# EAGLE library part SBH41-NBPB-D09-ST (library con-sullins)
HEADER
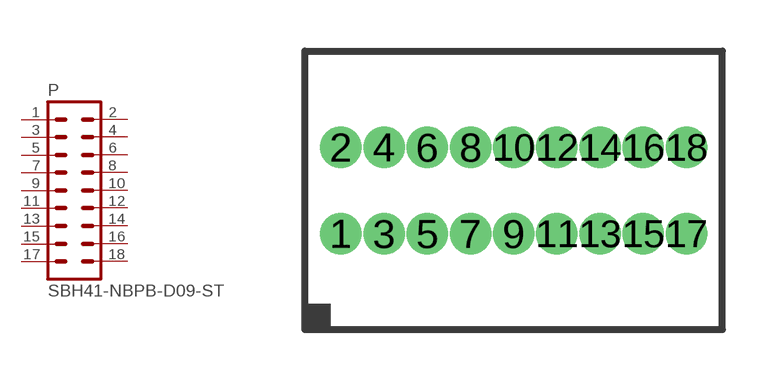
[diagram p62: symbol with the pads of SBH41-NBPB-D09-ST; footprint SBH41-NBPB-D09-ST]

Designator prefix P

## SBH41-NBPB-D09-ST  [SBH41-NBPB-D09-ST]
1  1  pas
2  2  pas
3  3  pas
4  4  pas
5  5  pas
6  6  pas
7  7  pas
8  8  pas
9  9  pas
10  10  pas
11  11  pas
12  12  pas
13  13  pas
14  14  pas
15  15  pas
16  16  pas
17  17  pas
18  18  pas

## Footprint SBH41-NBPB-D09-ST (pad centres in mm)
HEADER
drill 0.711: 1 -5.08,-1.27; 2 -5.08,1.27; 3 -3.81,-1.27; 4 -3.81,1.27; 5 -2.54,-1.27; 6 -2.54,1.27; 7 -1.27,-1.27; 8 -1.27,1.27; 9 0,-1.27; 10 0,1.27; 11 1.27,-1.27; 12 1.27,1.27; 13 2.54,-1.27; 14 2.54,1.27; 15 3.81,-1.27; 16 3.81,1.27; 17 5.08,-1.27; 18 5.08,1.27